# Altium schematic symbol library Murata.SchLib: 1 symbol
Pins are listed as number, name and electrical type; pins without a type are passive.

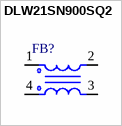
[diagram p0: symbol DLW21SN900SQ2]

## DLW21SN900SQ2
designator FB?  (value not drawn)
Wire-wound common choke
footprint DLW21S_0805 (Wide-wound common choke)
pins: 1, 2, 3, 4